# Altium footprint library Altavoz.PcbLib: 1 footprints
Each footprint in its own frame and in the unit in brackets; x right, y up, seen from the top. Pads: shape width x height; smd on the part's side, far side on the other; paste and mask are expansions set on the pad; w line width, h text height; cw(c..) or ccw(c..) is an arc to the next point about the centre after c.
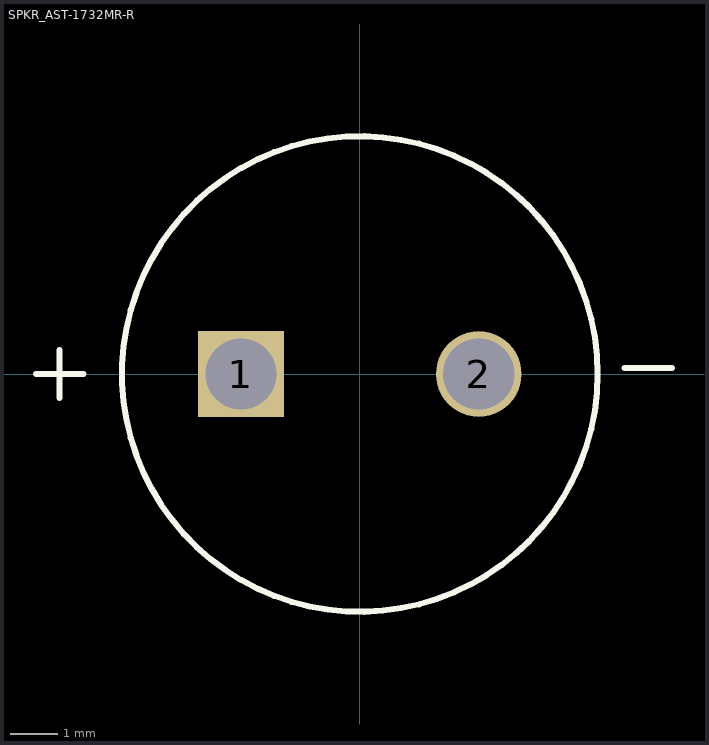
[diagram p0: the footprint, top view; thin cyan lines are the x and y axes]

## SPKR_AST-1732MR-R [mm]
pads (2):
  rect 1.8x1.8 hole 1.5: 1(-2.5,0)
  round 1.8 hole 1.5: 2(2.5,0)
Top Overlay:
  circle w0.127: c0,0 r5
  lines w0.127: -6.813,0 -5.813,0 ; -6.313,-0.5 -6.313,0.5 ; 5.567,0.127 6.567,0.127